# Altium schematic symbol library TPS7A2033PDBVR.SchLib: 1 symbol
Pins are listed as number, name and electrical type; pins without a type are passive.

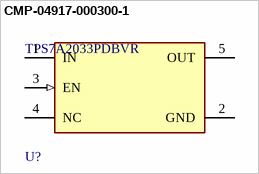
[diagram p0: symbol CMP-04917-000300-1]

## CMP-04917-000300-1
designator U?, comment TPS7A2033PDBVR
IC REG LINEAR 3.3V 300MA SOT23-5; RoHS Compliant: Yes
footprint FP-DBV0005A-MFG
footprint FP-DBV0005A-IPC_B
footprint FP-DBV0005A-IPC_C
footprint FP-DBV0005A-IPC_A
pins: 1 IN (power), 2 GND (power), 3 EN (in), 4 NC, 5 OUT